# EAGLE library part MUSB-5BF02AS-N (library systas0)
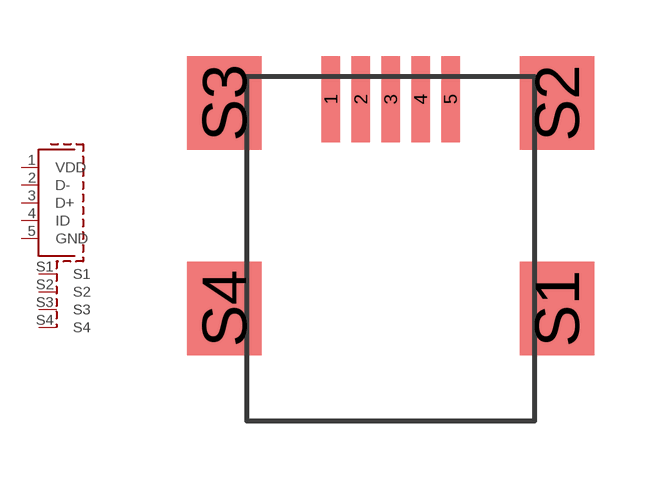
[diagram p11: symbol with the pads of MUSB-5BF02AS-N; footprint MUSB-5BF02AS-N]

Designator prefix -

## MUSB-5BF02AS-N  [MUSB-5BF02AS-N]
1  VDD
2  D-
3  D+
4  ID
5  GND
S1  S1
S2  S2
S3  S3
S4  S4

## Footprint MUSB-5BF02AS-N (pad centres in mm)
smd 0.5 x 2.3: 1 -1.6,0; 2 -0.8,0; 3 0,0; 4 0.8,0; 5 1.6,0
smd 2 x 2.5: S1 4.45,-5.6; S2 4.45,-0.1; S3 -4.45,-0.1; S4 -4.45,-5.6